# EAGLE library part PARTICLE-DEVICES_ELECTRON-PWR-PINS (library Carrier Board)
This is a Electron pinout with the two power pins populated
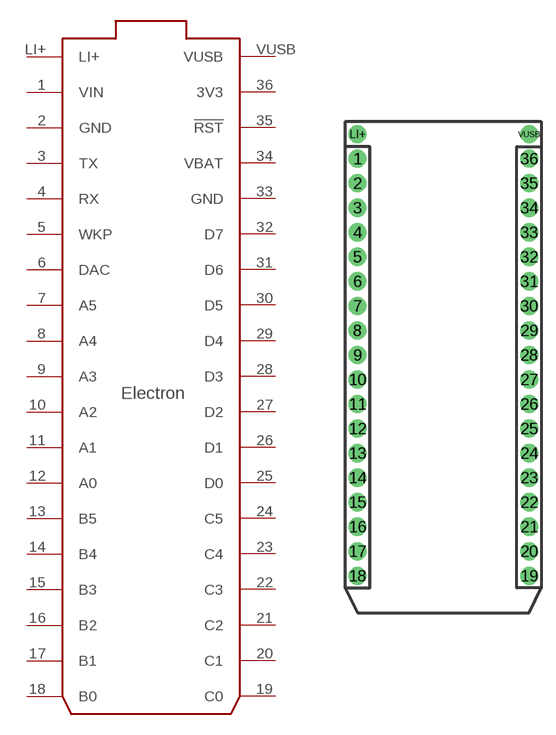
[diagram p0: symbol with the pads of PARTICLE-DEVICES_ELECTON-PWR-PINS; footprint PARTICLE-DEVICES_ELECTON-PWR-PINS]

Designator prefix U

## PARTICLE-DEVICES_ELECTRON-PWR-PINS  [PARTICLE-DEVICES_ELECTON-PWR-PINS]
1  VIN  pwr
2  GND  pwr
3  TX
4  RX
5  WKP
6  DAC
7  A5
8  A4
9  A3
10  A2
11  A1
12  A0
13  B5
14  B4
15  B3
16  B2
17  B1
18  B0
19  C0
20  C1
21  C2
22  C3
23  C4
24  C5
25  D0
26  D1
27  D2
28  D3
29  D4
30  D5
31  D6
32  D7
33  GND  pwr
34  VBAT  pwr
35  !RST
36  3V3  pwr
LI+  LI+
VUSB  VUSB

## Footprint PARTICLE-DEVICES_ELECTON-PWR-PINS (pad centres in mm)
drill 1.016 pad 1.88: 1 2.54,46.99; 2 2.54,44.45; 3 2.54,41.91; 4 2.54,39.37; 5 2.54,36.83; 6 2.54,34.29; 7 2.54,31.75; 8 2.54,29.21; 9 2.54,26.67; 10 2.54,24.13; 11 2.54,21.59; 12 2.54,19.05; 13 2.54,16.51; 14 2.54,13.97; 15 2.54,11.43; 16 2.54,8.89; 17 2.54,6.35; 18 2.54,3.81; 19 20.32,3.81; 20 20.32,6.35; 21 20.32,8.89; 22 20.32,11.43; 23 20.32,13.97; 24 20.32,16.51; 25 20.32,19.05; 26 20.32,21.59; 27 20.32,24.13; 28 20.32,26.67; 29 20.32,29.21; 30 20.32,31.75; 31 20.32,34.29; 32 20.32,36.83; 33 20.32,39.37; 34 20.32,41.91; 35 20.32,44.45; 36 20.32,46.99; LI+ 2.54,49.53; VUSB 20.32,49.53